# Altium footprint library STM32_Bluepill.PcbLib: 1 footprints
Each footprint in its own frame and in the unit in brackets; x right, y up, seen from the top. Pads: shape width x height; smd on the part's side, far side on the other; paste and mask are expansions set on the pad; w line width, h text height; cw(c..) or ccw(c..) is an arc to the next point about the centre after c.
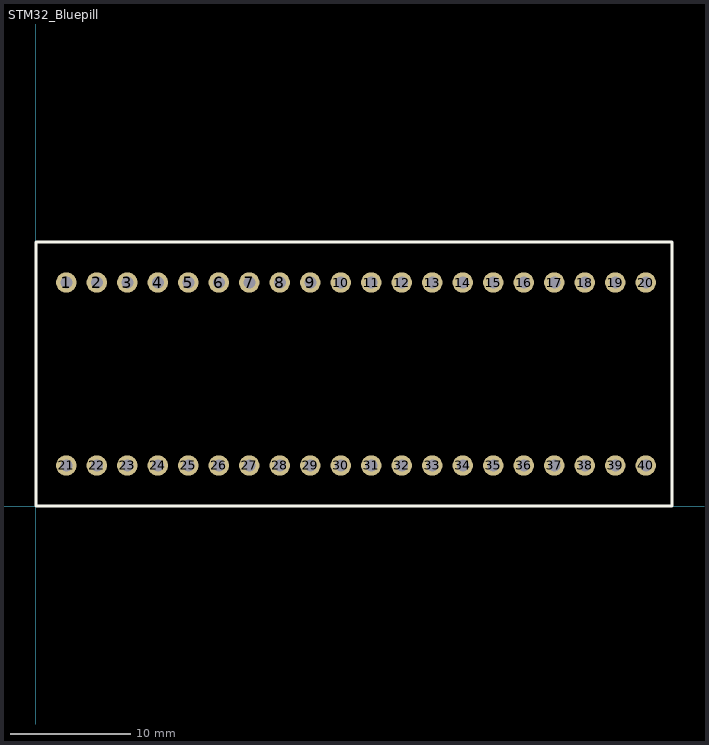
[diagram p0: the footprint, top view; thin cyan lines are the x and y axes]

## STM32_Bluepill [mm]
pads (40):
  round 1.7 hole 1: 1(2.54,18.62) 2(5.08,18.62) 3(7.62,18.62) 4(10.16,18.62) 5(12.7,18.62) 6(15.24,18.62) 7(17.78,18.62) 8(20.32,18.62) 9(22.86,18.62) 10(25.4,18.62) 11(27.94,18.62) 12(30.48,18.62) 13(33.02,18.62) 14(35.56,18.62) 15(38.1,18.62) 16(40.64,18.62) 17(43.18,18.62) 18(45.72,18.62) 19(48.26,18.62) 20(50.8,18.62) 21(2.54,3.38) 22(5.08,3.38) 23(7.62,3.38) 24(10.16,3.38) 25(12.7,3.38) 26(15.24,3.38) 27(17.78,3.38) 28(20.32,3.38) 29(22.86,3.38) 30(25.4,3.38) 31(27.94,3.38) 32(30.48,3.38) 33(33.02,3.38) 34(35.56,3.38) 35(38.1,3.38) 36(40.64,3.38) 37(43.18,3.38) 38(45.72,3.38) 39(48.26,3.38) 40(50.8,3.38)
Top Overlay:
  lines w0.254: 0,0 53,0 53,22 0,22 0,0